# Altium footprint library Expansion board.PcbLib: 24 footprints (part 2 of 2)
Each footprint in its own frame and in the unit in brackets; x right, y up, seen from the top. Pads: shape width x height; smd on the part's side, far side on the other; paste and mask are expansions set on the pad; w line width, h text height; cw(c..) or ccw(c..) is an arc to the next point about the centre after c.
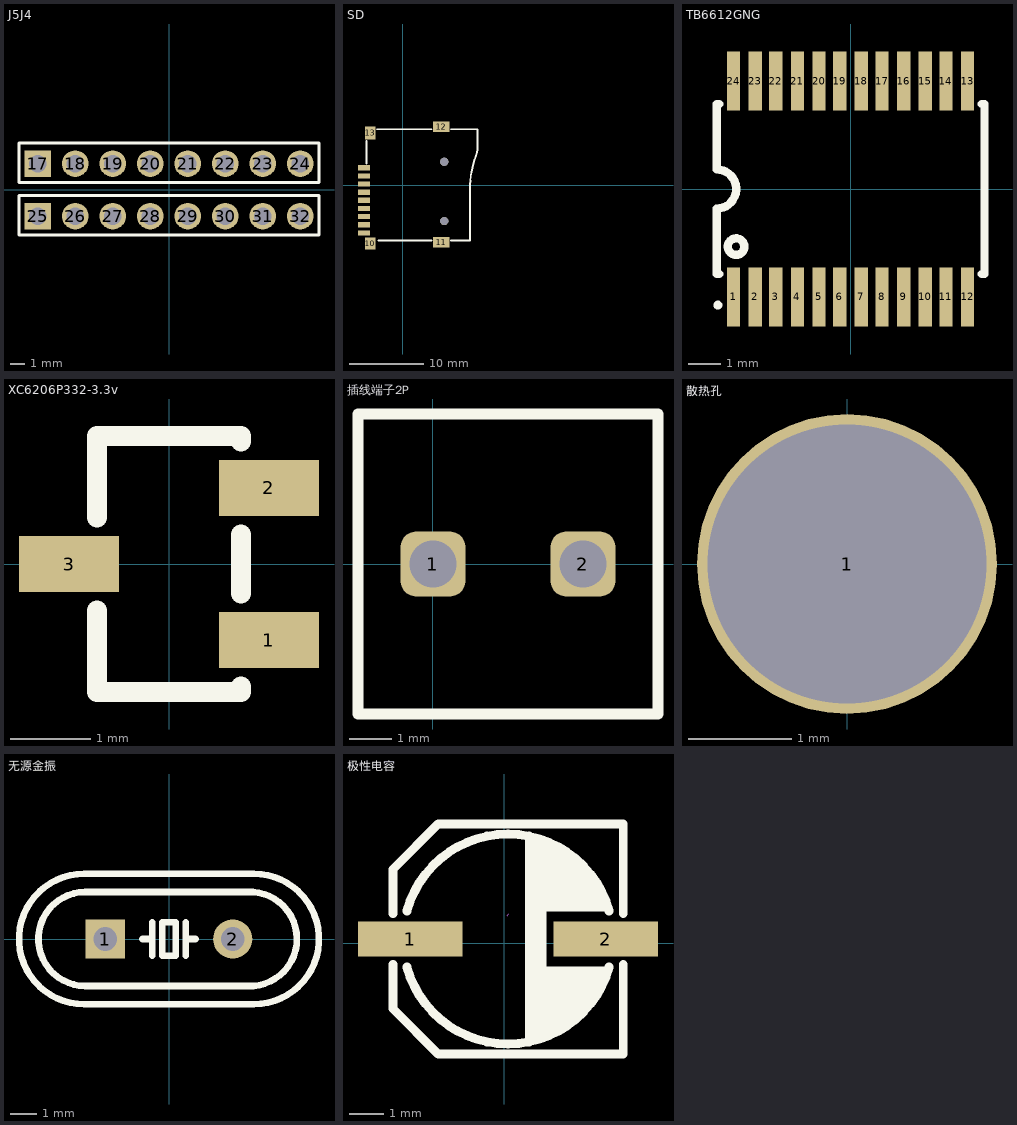
[diagram p1: the footprints below, top view; thin cyan lines are the x and y axes]

## J5J4 [mm]
pads (16):
  rect 1.8x1.8 hole 1.2: 17(-8.89,1.778) 25(-8.89,-1.778)
  round 1.8 hole 1.2: 18(-6.35,1.778) 19(-3.81,1.778) 20(-1.27,1.778) 21(1.27,1.778) 22(3.81,1.778) 23(6.35,1.778) 24(8.89,1.778) 26(-6.35,-1.778) 27(-3.81,-1.778) 28(-1.27,-1.778) 29(1.27,-1.778) 30(3.81,-1.778) 31(6.35,-1.778) 32(8.89,-1.778)
Top Overlay:
  lines w0.203: -10.16,-3.048 -10.16,-0.381 0,-0.381 10.16,-0.381 10.16,-3.048 0,-3.048 -10.16,-3.048 ; -10.16,0.508 -10.16,3.175 0,3.175 10.16,3.175 10.16,0.508 0,0.508 -10.16,0.508
3D body "1001-8.STEP": height 8.54, standoff -3, extent -10.16,-3.048 10.16,-0.508
3D body "1001-8.STEP": height 8.54, standoff -3, extent -10.16,0.508 10.16,3.048

## SD [mil] "TF"
pads (15):
  rect 63x27.6 smd: 1(-205.77,92.52) 2(-205.77,49.21) 3(-205.77,5.91) 4(-205.77,-37.4) 5(-205.77,-80.71) 6(-205.77,-124.02) 7(-205.77,-167.32) 8(-205.77,-210.63) 9(-205.77,-253.94)
  rect 55.1x63 smd: 10(-172.19,-311.02)
  rect 86.6x55.1 smd: 11(205.77,-303.15) 12(205.77,311.02)
  rect 55.1x70.9 smd: 13(-172.17,277.58)
  round 43.31 hole 43.31 unplated: ""(221.51,-190.94) ""(221.51,124.02)
Top Overlay:
  lines w10: -192.17,113.94 -192.17,235.94 ; -137.17,296.94 153.83,296.94 ; -129.17,-294.06 153.83,-294.06 ; 256.83,-294.06 357.83,-294.06 357.83,-21.06 ; 256.83,296.94 398.83,296.94 ; 357.83,-20.59 cw(c857.83,-20.6) 390.58,157.4 ccw(c287.26,196.76) 397.83,196.77 ; 397.83,196.94 397.83,295.94
3D body "tf_card_1.stp": height 72.83, standoff -23.62, extent -210,-310 471.07,323.86

## TB6612GNG [mil]
pads (24):
  rect 16x71 smd: 1(-141,-129.92) 2(-115,-129.92) 3(-90,-129.92) 4(-64,-129.92) 5(-38,-129.92) 6(-13,-129.92) 7(13,-129.92) 8(38,-129.92) 9(64,-129.92) 10(90,-129.92) 11(115,-129.92) 12(141,-129.92) 13(141,129.92) 14(115,129.92) 15(90,129.92) 16(64,129.92) 17(38,129.92) 18(13,129.92) 19(-13,129.92) 20(-38,129.92) 21(-64,129.92) 22(-90,129.92) 23(-115,129.92) 24(-141,129.92)
Top Overlay:
  circle w10: c-138,-69.5 r10
  circle w10: c-160,-140 r0.39
  lines w10: -161.45,-23.65 ccw(c-161.43,-0.01) -161.42,23.62 -161.42,102.36 -158.1,102.36 ; -161.42,-23.62 -161.42,-102.36 -158.1,-102.36 ; 158.1,-102.36 161.42,-102.36 161.42,102.36 158.1,102.36
3D body "SW3dPS-SSOP-24.STEP": height 74.18, standoff -0.62, extent -165.35,-155 165.35,156.02

## XC6206P332-3.3v [mm]
pads (3):
  rect 1.25x0.7 smd: 1(1.25,-0.95) 2(1.25,0.95) 3(-1.25,0)
Top Overlay:
  lines w0.254: -0.9,-0.581 -0.9,-1.6 0.9,-1.6 0.9,-1.531 ; -0.9,0.581 -0.9,1.6 0.9,1.6 0.9,1.531 ; 0.9,-0.369 0.9,0.369
3D body "SOT23-3-2.STEP": height 1.05, standoff 0, extent -1.4,-1.5 1,1.5

## 插线端子2P [mil]
pads (2):
  rrect50% 60x60 hole 43.31: 1(0,0) 2(137.8,0)
Top Overlay:
  lines w10: -68.9,-137.8 -68.9,0 -68.9,137.8 206.69,137.8 206.69,0 206.69,-137.8 -68.9,-137.8
3D body "KF350.STEP": height 397.7, standoff -145.61, extent -81.77,-130 71.77,165.27
3D body "KF350.STEP": height 397.7, standoff -145.61, extent 53.23,-130 206.77,165.27

## 散热孔 [mm]
pads (1):
  round 2.9 hole 2.7: 1(0,0)

## 无源金振 [mm] "晶振 12M 16M"
pads (2):
  rect 1.5x1.5 hole 0.9: 1(-2.438,0)
  round 1.5 hole 0.9: 2(2.438,0)
Top Overlay:
  lines w0.254: -3.251,2.499 ccw(c-3.243,0) -3.25,-2.5 3.25,-2.5 ; -3.25,2.5 3.25,2.5 cw(c3.243,0) 3.251,-2.499 ; -3.2,1.8 3.2,1.8 cw(c3.093,0) 3,-1.801 ; -3.2,1.801 ccw(c-3.2,0) -3.2,-1.8 3,-1.8 ; -1.016,0 -0.635,0 ; -0.635,-0.635 -0.635,0 ; -0.635,0.635 -0.635,0 ; 0.635,-0.635 0.635,0 ; 0.635,0.635 0.635,0 ; 1.016,0 0.635,0 ; -0.254,-0.635 0.254,-0.635 0.254,0.635 -0.254,0.635 -0.254,-0.635
3D body "SW3dPS-HP49US(1).STEP": height 3.51, standoff -3.99, extent -5.675,-2.324 5.675,2.326

## 极性电容 [mm]
pads (2):
  rect 3x1 smd: 1(-2.691,0.124) 2(2.909,0.124)
Top Overlay:
  region: 0.609,-2.876 0.609,3.024 0.609,3.124 0.609,3.024 1.209,2.924 1.709,2.724 2.009,2.424 2.309,2.224 2.609,1.924 2.809,1.524 3.009,0.924 1.209,0.924 1.209,-0.676 3.009,-0.676 2.909,-0.876 2.809,-1.276 2.509,-1.576 2.309,-1.976 1.909,-2.276 1.509,-2.476 1.109,-2.676
  lines w0.254: -3.188,-0.607 -3.188,-1.875 -1.887,-3.175 3.411,-3.175 3.411,-0.607 ; -3.188,0.856 -3.188,2.123 -1.887,3.424 3.411,3.424 3.411,0.856 ; -2.791,-0.676 ccw(c0.109,0.124) 3.009,-0.676 ; -2.791,0.924 cw(c0.109,0.124) 3.009,0.924
Mechanical 15:
  lines w0.003: 0.084,0.796 0.134,0.847
3D body "CE_SMD_d_6_3x7_7.STEP": height 7.75, standoff 0.04, extent -3.444,-3.173 3.556,3.427